# Altium footprint library SM.PcbLib: 1 footprints
Each footprint in its own frame and in the unit in brackets; x right, y up, seen from the top. Pads: shape width x height; smd on the part's side, far side on the other; paste and mask are expansions set on the pad; w line width, h text height; cw(c..) or ccw(c..) is an arc to the next point about the centre after c.
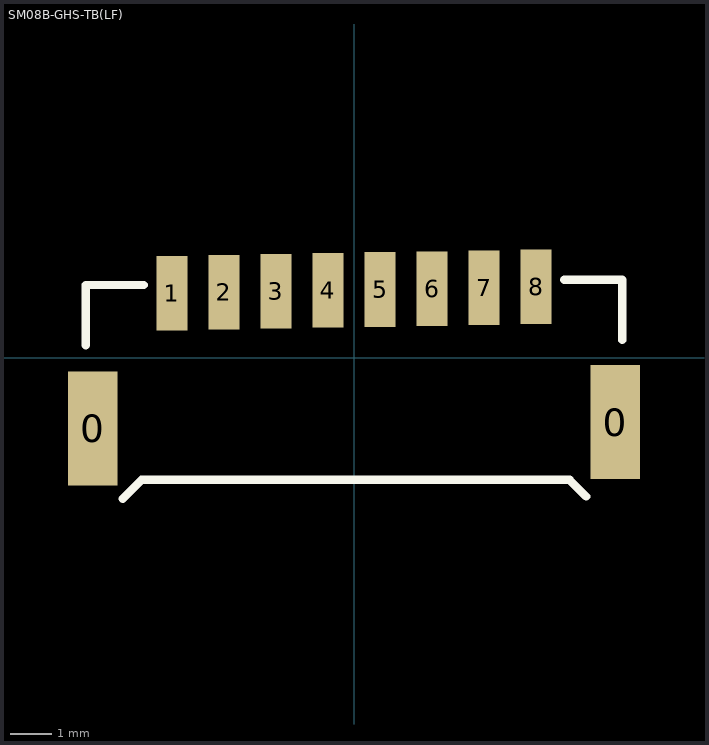
[diagram p0: the footprint, top view; thin cyan lines are the x and y axes]

## SM08B-GHS-TB(LF) [mm]
pads (10):
  rect 1.2x2.75 smd: 0(-6.299,-1.708) 0(6.299,-1.555)
  rect 0.75x1.8 smd: 1(-4.391,1.555) 2(-3.136,1.577) 3(-1.882,1.599) 4(-0.627,1.62) 5(0.627,1.642) 6(1.882,1.664) 7(3.136,1.686) 8(4.391,1.708)
Top Overlay:
  lines w0.203: -6.475,0.3 -6.475,1.75 -5.075,1.75 ; -5.575,-3.4 -5.125,-2.95 ; 5.075,1.875 6.475,1.875 6.475,0.425 ; 5.6,-3.35 5.2,-2.95 -5.125,-2.95 ; -5.125,-2.95 -5.125,-2.95